# Altium schematic symbol library PJ-050AH.SchLib: 1 symbol
Pins are listed as number, name and electrical type; pins without a type are passive.

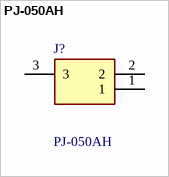
[diagram p0: symbol PJ-050AH]

## PJ-050AH
designator J?
2.0 x 6.0 mm, 5.0 A, Horizontal, Through Hole, Pick-n-Place Top, Dc Power Jack Connector; Manufacturer_Name: Same Sky; Geometry.Height: 11mm; Mouser Part Number: 490-PJ-050AH; Mouser Price/Stock: https://www.mouser.co.uk/ProductDetail/CUI-Devices/PJ-050AH?qs=WyjlAZoYn50PwROH2sG8CQ%3D%3D; Manufacturer_Part_Number: PJ-050AH; Datasheet Link: https://www.sameskydevices.com/product/resource/pj-050ah.pdf
footprint PJ050AH
pins: 1, 2, 3